# Altium schematic symbol library 22232041.SchLib: 2 symbols
Pins are listed as number, name and electrical type; pins without a type are passive.

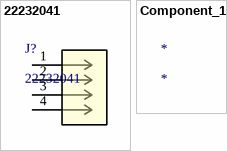
[diagram p0: symbols 22232041 to Component_1]

## 22232041
designator J?
No Description Available; Mfr_Name: Molex Connector Corporation; Copyright: Copyright (C) 2023 Ultra Librarian. All rights reserved.; Manufacturer_Part_Number: 22232041; RefDes: RefDes; Type: DEV
footprint CONN_22-23-2041_MOL
pins: 1, 2, 3, 4

## Component_1
designator *